# Altium schematic symbol library Header3x2.SchLib: 1 symbol
Pins are listed as number, name and electrical type; pins without a type are passive.

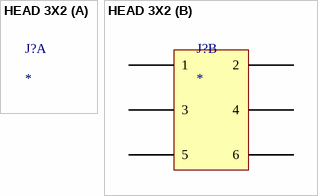
[diagram p0: symbol HEAD 3X2]

## HEAD 3X2
designator J?
footprint Header 3x2 (2.54mm)
part B pins: 1, 2, 3, 4, 5, 6